# Altium footprint library SnapEDApcb.PcbLib: 1 footprints
Each footprint in its own frame and in the unit in brackets; x right, y up, seen from the top. Pads: shape width x height; smd on the part's side, far side on the other; paste and mask are expansions set on the pad; w line width, h text height; cw(c..) or ccw(c..) is an arc to the next point about the centre after c.
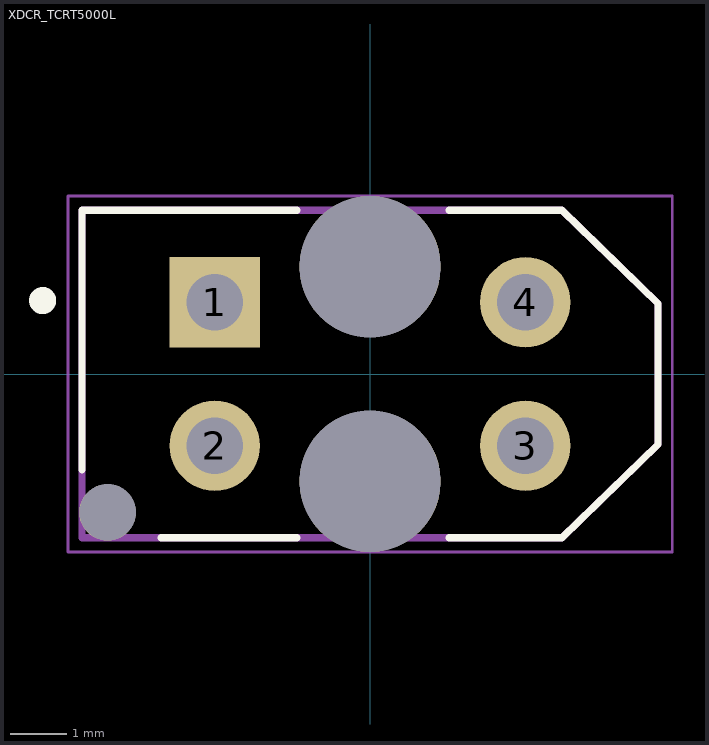
[diagram p0: the footprint, top view; thin cyan lines are the x and y axes]

## XDCR_TCRT5000L [mm]
pads (7):
  rect 1.6x1.6 hole 1: 1(-2.75,1.27)
  round 1.6 hole 1: 2(-2.75,-1.27) 3(2.75,-1.27) 4(2.75,1.27)
  round 1 hole 1 unplated: ""(-4.65,-2.45)
  round 2.5 hole 2.5 unplated: ""(0,-1.9) ""(0,1.9)
Top Overlay:
  circle w0.24: c-5.8,1.3 r0.12
  lines w0.127: -5.1,-1.7 -5.1,2.9 -1.3,2.9 ; -3.7,-2.9 -1.3,-2.9 ; 1.4,-2.9 3.4,-2.9 5.1,-1.25 5.1,1.25 3.4,2.9 1.4,2.9
Mechanical 13:
  lines w0.127: -5.1,-2.9 -5.1,2.9 3.4,2.9 5.1,1.25 5.1,-1.25 3.4,-2.9 -5.1,-2.9
Mechanical 15:
  lines w0.05: -5.35,-3.15 -5.35,3.15 5.35,3.15 5.35,-3.15 -5.35,-3.15
3D body "TCRT5000L.STEP": height 6.71, standoff -15.99, extent -5.1,-3.5 5.1,3.5